# Altium schematic symbol library NRF51822_breakout.SchLib: 1 symbol
Pins are listed as number, name and electrical type; pins without a type are passive.

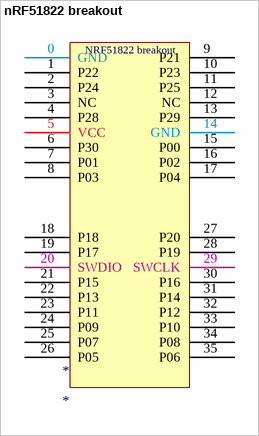
[diagram p0: symbol nRF51822 breakout]

## nRF51822 breakout
designator *
footprint nrf551822_breakout
pins: 0 GND, 1 P22, 2 P24, 3 NC, 4 P28, 5 VCC, 6 P30, 7 P01, 8 P03, 9 P21, 10 P23, 11 P25, 12 NC, 13 P29, 14 GND, 15 P00, 16 P02, 17 P04, 18 P18, 19 P17, 20 SWDIO, 21 P15, 22 P13, 23 P11, 24 P09, 25 P07, 26 P05, 27 P20, 28 P19, 29 SWCLK, 30 P16, 31 P14, 32 P12, 33 P10, 34 P08, 35 P06
text: NRF51822 breakout